# Altium schematic symbol library MAX268.SchLib: 1 symbol
Pins are listed as number, name and electrical type; pins without a type are passive.

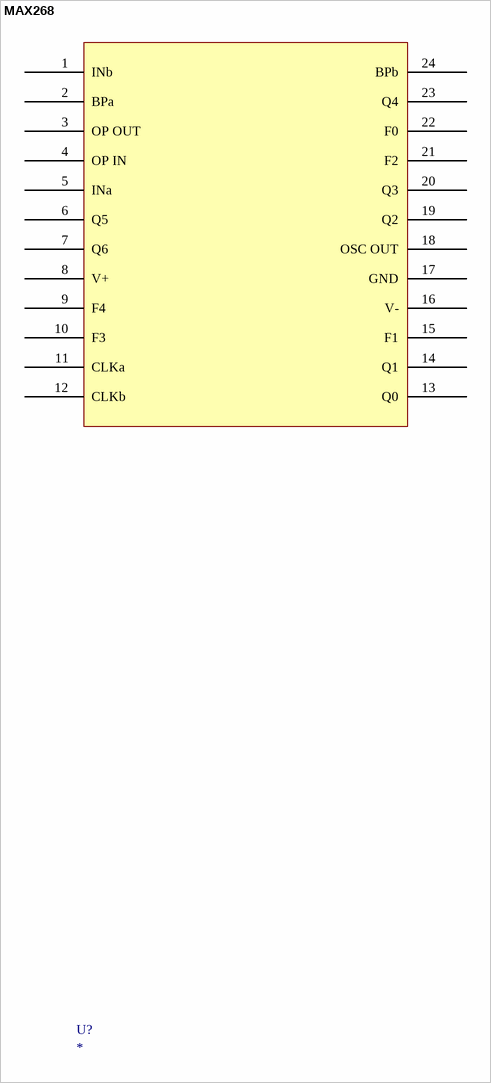
[diagram p0: symbol MAX268]

## MAX268
designator U?
pins: 1 INb, 2 BPa, 3 OP OUT, 4 OP IN, 5 INa, 6 Q5, 7 Q6, 8 V+ (power), 9 F4, 10 F3, 11 CLKa, 12 CLKb, 13 Q0, 14 Q1, 15 F1, 16 V- (power), 17 GND, 18 OSC OUT, 19 Q2, 20 Q3, 21 F2, 22 F0, 23 Q4, 24 BPb